# Altium footprint library Capacitor.PcbLib: 76 footprints (part 1 of 5)
Each footprint in its own frame and in the unit in brackets; x right, y up, seen from the top. Pads: shape width x height; smd on the part's side, far side on the other; paste and mask are expansions set on the pad; w line width, h text height; cw(c..) or ccw(c..) is an arc to the next point about the centre after c.
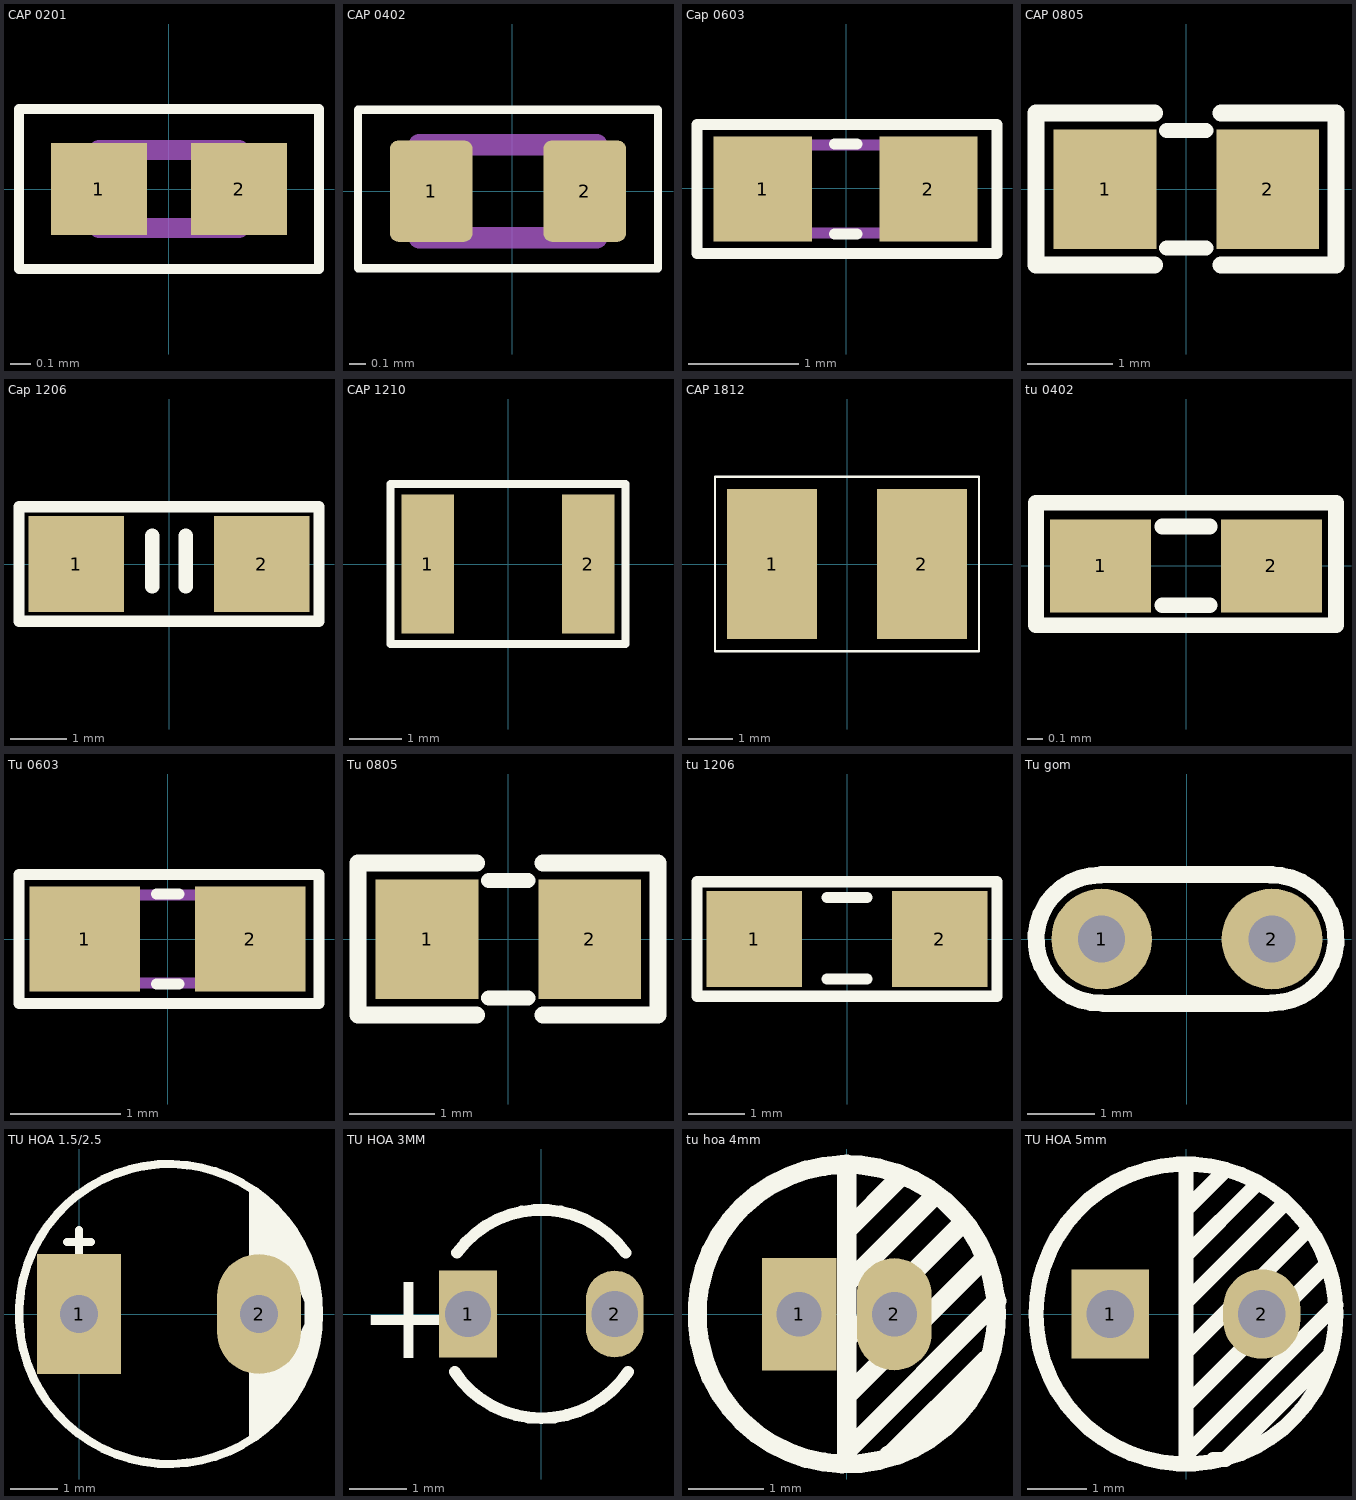
[diagram p0: the footprints below, top view; thin cyan lines are the x and y axes]

## CAP 0201 [mm] "Chip Capacitor, 2-Leads, Body 0.65x0.35mm, IPC Medium Density"
height 0.3
pads (2):
  rect 0.48x0.46 smd: 1(-0.35,0) 2(0.35,0)
Top Overlay:
  lines w0.05: -0.75,-0.4 -0.75,0.4 0.75,0.4 0.75,-0.4 -0.75,-0.4
Mechanical 13:
  lines w0.1: -0.35,-0.195 0.35,-0.195 0.35,0.195 -0.35,0.195 -0.35,-0.195
3D body "C0201.stp": height 0.32, standoff 0.02, extent -0.3,-0.15 0.3,0.15

## CAP 0402 [mm]
pads (2):
  rrect20% 0.49x0.6 smd: 1(-0.48,0) 2(0.43,0)
Top Overlay:
  lines w0.05: -0.914,-0.457 0.864,-0.457 0.864,0.483 -0.914,0.483 -0.914,-0.457
Mechanical 13:
  lines w0.127: -0.55,-0.275 0.5,-0.275 0.5,0.275 -0.55,0.275 -0.55,-0.275
3D body "C0402.stp": height 0.5, standoff 0, extent -0.525,-0.254 0.475,0.246

## Cap 0603 [mm]
height 5.08
pads (2):
  rect 0.889x0.95 smd mask+0.076: 1(-0.758,-0.008) 2(0.742,-0.008)
Top Overlay:
  lines w0.102: -0.109,-0.415 0.094,-0.415 ; -0.109,0.398 0.094,0.398 ; -1.354,-0.592 1.364,-0.592 1.364,0.576 -1.354,0.576 -1.354,-0.592
Mechanical 13:
  lines w0.1: -0.808,-0.408 0.792,-0.408 0.792,0.392 -0.808,0.392 -0.808,-0.408
3D body "C0603.stp": height 0.78, standoff -0.02, extent -0.775,-0.406 0.825,0.394

## CAP 0805 [mm] "Compoment SMD 80x50mil"
height 1.27
pads (2):
  rect 1.2x1.4 smd: 1(-0.946,-0.003) 2(0.954,-0.003)
Top Overlay:
  lines w0.178: -0.224,-0.689 0.233,-0.689 ; -0.224,0.682 0.233,0.682
  lines w0.2: -0.367,-0.889 -1.753,-0.889 -1.753,0.889 -0.367,0.889 ; 0.408,-0.889 1.753,-0.889 1.753,0.889 0.408,0.889
3D body "C0805.stp": height 1.23, standoff -0.02, extent -0.974,-0.615 1.026,0.635

## Cap 1206 [mm]
height 1.1
pads (2):
  rect 1.7x1.7 smd: 1(-1.65,0) 2(1.65,0)
Top Overlay:
  lines w0.2: -2.667,-1.016 -2.667,1.016 2.667,1.016 2.667,-0.483 2.667,-1.016 -2.667,-1.016
  lines w0.254: -0.3,-0.4 -0.3,0.5 ; 0.3,-0.4 0.3,0.5
3D body "1206 SMD Capacitor.step": height 1.02, standoff 0.02, extent -1.6,-0.8 1.6,0.8

## CAP 1210 [mm] "Chip Capacitor, 2-Leads, Body 3.20x2.50mm, IPC Medium Density"
height 1.7
pads (2):
  rect 1x2.65 smd: 1(-1.525,0) 2(1.525,0)
Top Overlay:
  lines w0.152: -2.235,-1.524 2.235,-1.524 2.235,1.524 -2.235,1.524 -2.235,-1.524
Mechanical 13:
  lines w0.1: -1.6,-1.25 -1.6,1.25 ; 1.6,-1.25 1.6,1.25
3D body "C1210.stp": height 2.02, standoff 0.02, extent -1.6,-1.25 1.6,1.25

## CAP 1812 [mm] "Chip Capacitor, 2-Leads, Body 4.50x3.20mm, IPC Medium Density"
height 3.5
pads (2):
  rect 2x3.35 smd: 1(-1.675,0) 2(1.675,0)
Top Overlay:
  lines w0.05: -2.95,-1.95 -2.95,1.95 2.95,1.95 2.95,-1.95 -2.95,-1.95
Mechanical 13:
  lines w0.1: -2.25,-1.6 -2.25,1.6 ; 2.25,-1.6 2.25,1.6
3D body "C1812.stp": height 2.62, standoff 0.02, extent -2.25,-1.6 2.25,1.6

## tu 0402 [mm]
pads (2):
  rect 0.65x0.6 smd: 1(-0.55,0) 2(0.55,0)
Top Overlay:
  lines w0.1: -0.152,-0.254 0.152,-0.254 ; -0.152,0.254 0.152,0.254 ; -0.965,-0.381 -0.965,0.406 0.965,0.406 0.965,-0.381 -0.965,-0.381
3D body "capacitor-0402C.step": height 0.35, standoff 0, extent -0.5,-0.265 0.5,0.265

## Tu 0603 [mm] "Chip Capacitor, 2-Leads, Body 1,60x0,80mm, IPC Medium Density"
height 0.5
pads (2):
  rect 1x0.95 smd mask+0.076: 1(-0.75,0) 2(0.75,0)
Top Overlay:
  lines w0.102: -0.102,-0.406 0.102,-0.406 ; -0.102,0.406 0.102,0.406 ; -1.346,-0.584 1.372,-0.584 1.372,0.584 -1.346,0.584 -1.346,-0.584
Mechanical 13:
  lines w0.1: -0.8,-0.4 0.8,-0.4 0.8,0.4 -0.8,0.4 -0.8,-0.4
3D body "User Library-CAPC1608X09.step": height 0.9, standoff 0, extent -0.8,-0.4 0.8,0.4

## Tu 0805 [mm] "Compoment SMD 80x50mil"
height 1.27
pads (2):
  rect 1.2x1.4 smd: 1(-0.946,-0.003) 2(0.954,-0.003)
Top Overlay:
  lines w0.178: -0.224,-0.689 0.233,-0.689 ; -0.224,0.682 0.233,0.682
  lines w0.2: -0.367,-0.889 -1.753,-0.889 -1.753,0.889 -0.367,0.889 ; 0.408,-0.889 1.753,-0.889 1.753,0.889 0.408,0.889
3D body "SW3dPS-smt_resistor_packages.STEP": height 0.61, standoff -0.01, extent -1.006,-0.638 1.014,0.632

## tu 1206 [mm]
pads (2):
  rect 1.7x1.7 smd: 1(-1.65,0) 2(1.65,0)
Top Overlay:
  lines w0.2: -0.356,-0.711 0.356,-0.711 ; -0.356,0.737 0.356,0.737 ; -2.667,-1.016 -2.667,1.016 2.667,1.016 2.667,-0.483 2.667,-1.016 -2.667,-1.016
3D body "capacitor 1206.step": height 0.94, standoff 0, extent -1.575,-0.8 1.625,0.8

## Tu gom [mm] "Tu gom mini"
pads (2):
  round 1.5 hole 0.7: 1(-1.27,0) 2(1.27,0)
Top Overlay:
  lines w0.254: -1.285,0.955 ccw(c-1.295,0) -1.27,-0.954 ; -1.27,0.965 1.27,0.965 ; -1.245,-0.965 1.194,-0.965 ; 1.245,0.954 cw(c1.27,0) 1.259,-0.955
3D body "User Library-Cap 100n.step": height 6.12, standoff -1.8, extent -2.918,-0.848 2.921,0.848

## TU HOA 1.5/2.5 [mil] "Tu hoa 33 >100 uF,50V, 220uF/16V,25V ( it su dung )"
height 300
pads (2):
  rect 70x100 hole 32: 1(0,0)
  oval 70x100 hole 32: 2(150,0)
Top Overlay:
  circle w7: c75,0 r125
  region: 142,106 142,39 156,39 173,35 182,25 188,10 188,-8 183,-19 183,-19.53 171,-33 155,-38 142,-41 142,-107 156,-96 177,-72 194,-40 199,-14 200,0 198,24 189,50 175,74 160,93
  lines w7: -10,60 10,60 ; 0,50 0,70
3D body "User Library-Cap 6_3x11.STEP": height 433.67, standoff -747.43, extent -46,-121.02 202.03,127.02

## TU HOA 3MM [mm]
pads (2):
  rect 1x1.5 hole 0.8: 1(-1.27,0)
  oval 1x1.5 hole 0.8: 2(1.27,0)
Top Overlay:
  lines w0.203: -1.502,-1.001 ccw(c0,0) 1.502,-1.001 ; -1.46,1.062 cw(c0,0) 1.46,1.062
  text "+" at -3.175,-0.762 h1.52
3D body "User Library-Capacitor Radial Electrolitic-150-400x700.step": height 7.01, standoff -2.7, extent -2,-2.025 1.993,1.975

## tu hoa 4mm [mm]
pads (2):
  rect 1x1.5 hole 0.6: 1(-0.635,0)
  oval 1x1.5 hole 0.6: 2(0.635,0)
Top Overlay:
  circle w0.254: c0,0 r2
  lines w0.254: 0,-1.956 0,2.007 ; 0,-1.803 0.025,-1.803 2.007,0.178 ; 0,-1.27 0,-1.092 1.829,0.737 ; 0,-0.381 0,-0.33 1.549,1.219 ; 0,0.279 0,0.406 1.143,1.549 ; 0,0.94 0,1.118 0.711,1.829 ; 0.559,-1.88 0.584,-1.88 1.854,-0.61
3D body "Cap electro 5x11x2mm.step": height 14.81, standoff 0.01, extent -2.474,-2.474 2.576,2.576

## TU HOA 5mm [mm]
pads (2):
  rect 1.3x1.5 hole 0.8: 1(-1.27,0)
  oval 1.3x1.5 hole 0.8: 2(1.27,0)
Top Overlay:
  circle w0.254: c0,0 r2.515
  lines w0.254: 0,-2.489 0,2.515 ; 0,-2.362 2.515,0.152 ; 0,-1.549 0,-1.524 2.362,0.838 ; 0,-0.737 0,-0.635 2.007,1.372 ; 0,0.203 1.651,1.854 ; 0,0.965 0,0.991 1.168,2.159 ; 0,1.727 0,1.321 0,1.753 0.61,2.362 ; 0.457,-2.438 0.66,-2.438 2.388,-0.711
3D body "Cap electro 6_3x11x2_5mm.step": height 14.55, standoff 0.01, extent -3.125,-3.175 3.226,3.175